# EAGLE library part 535512-22_S (library con-tyco-modu)
RECEPTACAL
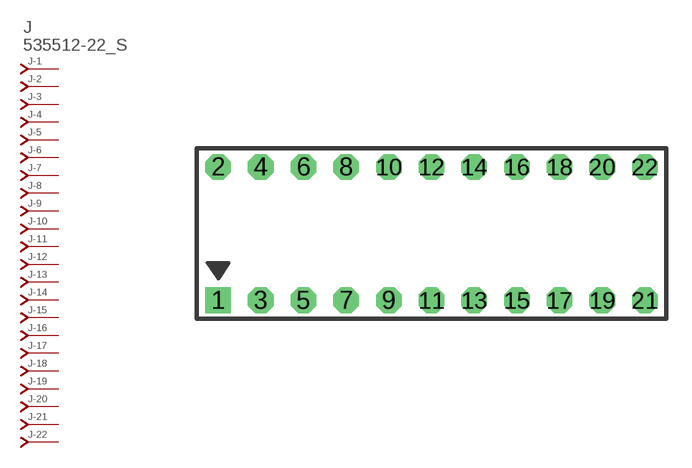
[diagram p28: symbol with the pads of 535512-22; footprint 535512-22]

Designator prefix J; gates -1=J-NV -2=J-N -3=J-N -4=J-N -5=J-N -6=J-N -7=J-N -8=J-N -9=J-N -10=J-N -11=J-N -12=J-N -13=J-N -14=J-N -15=J-N -16=J-N -17=J-N -18=J-N -19=J-N -20=J-N -21=J-N -22=J-N

## 535512-22_S  [535512-22]
1  -1:J  pas
2  -2:J  pas
3  -3:J  pas
4  -4:J  pas
5  -5:J  pas
6  -6:J  pas
7  -7:J  pas
8  -8:J  pas
9  -9:J  pas
10  -10:J  pas
11  -11:J  pas
12  -12:J  pas
13  -13:J  pas
14  -14:J  pas
15  -15:J  pas
16  -16:J  pas
17  -17:J  pas
18  -18:J  pas
19  -19:J  pas
20  -20:J  pas
21  -21:J  pas
22  -22:J  pas

## Footprint 535512-22 (pad centres in mm)
AMPMODU - 535512 Series
drill 1.016 square: 1 -12.7,0
drill 1.016 octagon: 2 -12.7,7.938; 3 -10.16,0; 4 -10.16,7.938; 5 -7.62,0; 6 -7.62,7.938; 7 -5.08,0; 8 -5.08,7.938; 9 -2.54,0; 10 -2.54,7.938; 11 0,0; 12 0,7.938; 13 2.54,0; 14 2.54,7.938; 15 5.08,0; 16 5.08,7.938; 17 7.62,0; 18 7.62,7.938; 19 10.16,0; 20 10.16,7.938; 21 12.7,0; 22 12.7,7.938